# Altium schematic symbol library OPA836IDBVR.Schlib: 1 symbol
Pins are listed as number, name and electrical type; pins without a type are passive.

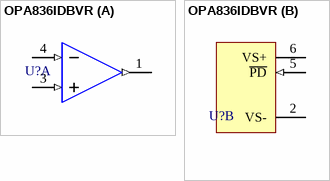
[diagram p0: symbol OPA836IDBVR]

## OPA836IDBVR
designator U?
part A pins: 1 VOUT (out), 3 VIN+ (in), 4 VIN- (in)
part B pins: 2 VS- (power), 5 ~{PD} (in), 6 VS+ (power)